# EAGLE library part ES_IO (library Electrosmith_Boards)
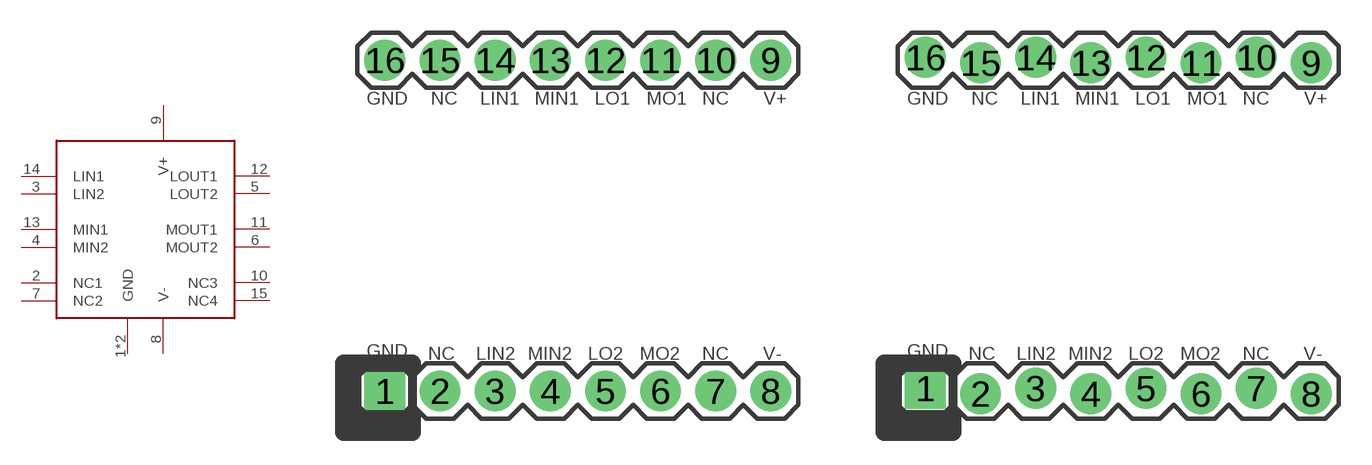
[diagram p3: symbol with the pads of ES_IO_V2; footprints ES_IO_V2, ES_IO_V2_LOCK]

Designator prefix U

## ES_IO  [ES_IO_V2]
1  GND
2  NC1
3  LIN2
4  MIN2
5  LOUT2
6  MOUT2
7  NC2
8  V-
9  V+
10  NC3
11  MOUT1
12  LOUT1
13  MIN1
14  LIN1
15  NC4
16  GND

## ES_IO_LOCK  [ES_IO_V2_LOCK]
Pads as for ES_IO_V2

## Footprint ES_IO_V2 (pad centres in mm)
drill 1.016 pad 1.88 square: 1 1.395,1.395
drill 1.016 pad 1.88: 2 3.935,1.395; 3 6.475,1.395; 4 9.015,1.395; 5 11.555,1.395; 6 14.095,1.395; 7 16.635,1.395; 8 19.175,1.395; 9 19.175,16.635; 10 16.635,16.635; 11 14.095,16.635; 12 11.555,16.635; 13 9.015,16.635; 14 6.475,16.635; 15 3.935,16.635; 16 1.395,16.635

## Footprint ES_IO_V2_LOCK (pad centres in mm)
drill 1.016 pad 1.88 square: 1 1.395,1.522
drill 1.016 pad 1.88: 2 3.935,1.268; 3 6.475,1.522; 4 9.015,1.268; 5 11.555,1.522; 6 14.095,1.268; 7 16.635,1.522; 8 19.175,1.268; 9 19.175,16.508; 10 16.635,16.762; 11 14.095,16.508; 12 11.555,16.762; 13 9.015,16.508; 14 6.475,16.762; 15 3.935,16.508; 16 1.395,16.762